# EAGLE library part MAX1737 (library ICs)
Stand-Alone Switch-Mode Lithium-Ion Battery-Charger Controller
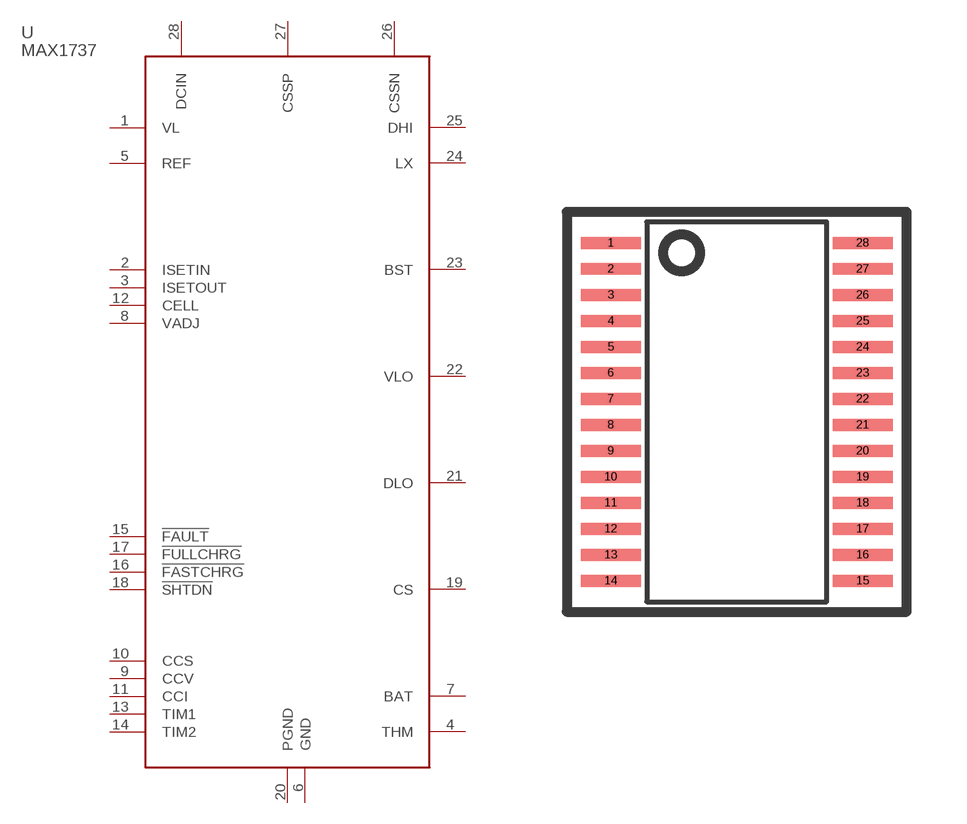
[diagram p136: symbol with the pads of SSOP28-4.5MM; footprint SSOP28-4.5MM]

Designator prefix U

## MAX1737 (FARNELL: 2518764; PRICE_PER: 5.71; VALUE: MAX1737)  [SSOP28-4.5MM]
1  VL
2  ISETIN
3  ISETOUT
4  THM
5  REF
6  GND
7  BAT
8  VADJ
9  CCV
10  CCS
11  CCI
12  CELL
13  TIM1
14  TIM2
15  !FAULT
16  !FASTCHRG
17  !FULLCHRG
18  !SHTDN
19  CS
20  PGND
21  DLO
22  VLO
23  BST
24  LX
25  DHI
26  CSSN
27  CSSP
28  DCIN

## Footprint SSOP28-4.5MM (pad centres in mm)
smd 1.5 x 0.3: 1 -3.15,4.225; 2 -3.15,3.575; 3 -3.15,2.925; 4 -3.15,2.275; 5 -3.15,1.625; 6 -3.15,0.975; 7 -3.15,0.325; 8 -3.15,-0.325; 9 -3.15,-0.975; 10 -3.15,-1.625; 11 -3.15,-2.275; 12 -3.15,-2.925; 13 -3.15,-3.575; 14 -3.15,-4.225; 15 3.15,-4.225; 16 3.15,-3.575; 17 3.15,-2.925; 18 3.15,-2.275; 19 3.15,-1.625; 20 3.15,-0.975; 21 3.15,-0.325; 22 3.15,0.325; 23 3.15,0.975; 24 3.15,1.625; 25 3.15,2.275; 26 3.15,2.925; 27 3.15,3.575; 28 3.15,4.225